# Altium footprint library LV8548MC.PcbLib: 1 footprints
Each footprint in its own frame and in the unit in brackets; x right, y up, seen from the top. Pads: shape width x height; smd on the part's side, far side on the other; paste and mask are expansions set on the pad; w line width, h text height; cw(c..) or ccw(c..) is an arc to the next point about the centre after c.
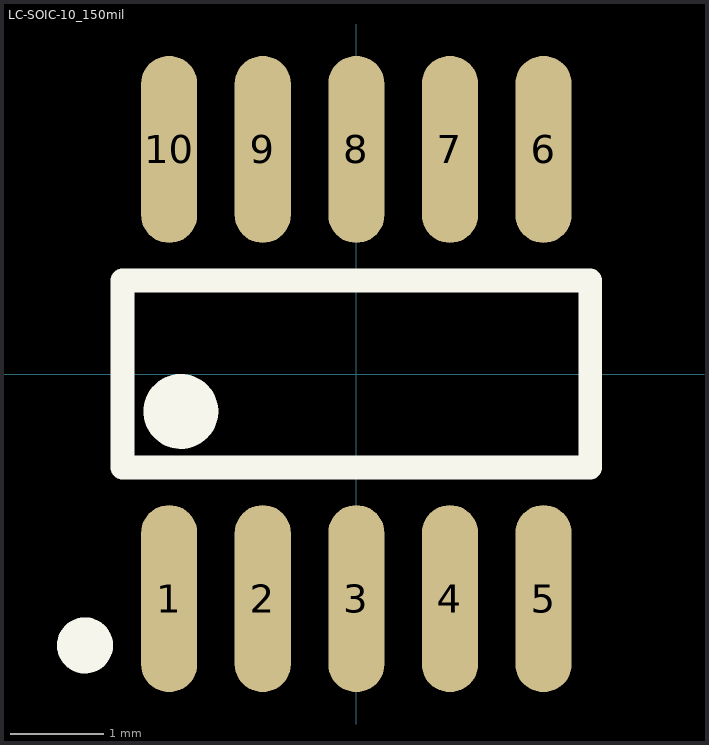
[diagram p0: the footprint, top view; thin cyan lines are the x and y axes]

## LC-SOIC-10_150mil [mm]
pads (10):
  oval 0.6x2 smd: 1(-2,-2.4) 2(-1,-2.4) 3(0,-2.4) 4(1,-2.4) 5(2,-2.4) 6(2,2.4) 7(1,2.4) 8(0,2.4) 9(-1,2.4) 10(-2,2.4)
Top Overlay:
  circle w0.4: c-1.875,-0.4 r0.2
  circle w0.3: c-2.9,-2.9 r0.15
  lines w0.254: -2.5,-1 2.5,-1 2.5,1 -2.5,1 -2.5,-1